# Altium footprint library CONN DT15-08P.PcbLib: 1 footprints
Each footprint in its own frame and in the unit in brackets; x right, y up, seen from the top. Pads: shape width x height; smd on the part's side, far side on the other; paste and mask are expansions set on the pad; w line width, h text height; cw(c..) or ccw(c..) is an arc to the next point about the centre after c.
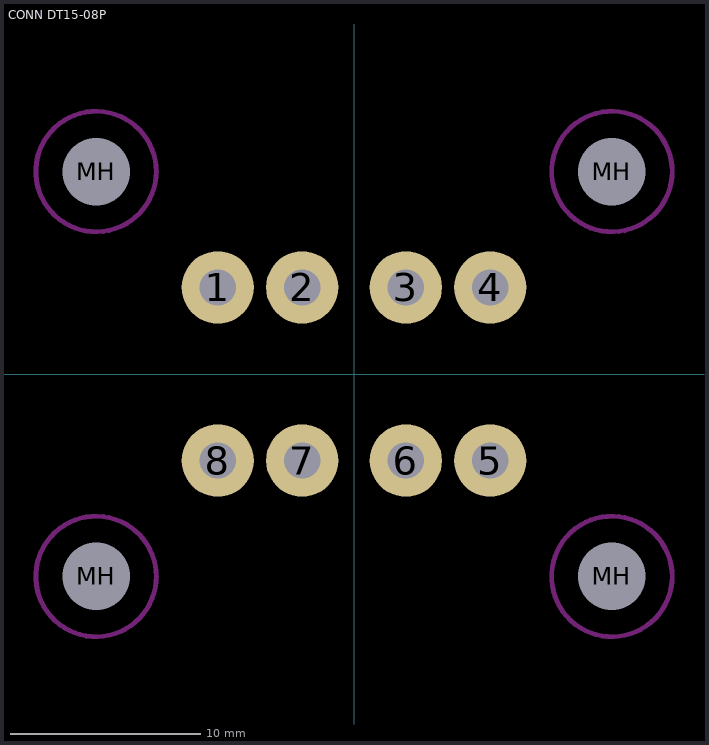
[diagram p0: the footprint, top view; thin cyan lines are the x and y axes]

## CONN DT15-08P [mil]
pads (12):
  round 150 hole 75: 1(-282.5,179.5) 2(-107.5,179.5) 3(107.5,179.5) 4(282.5,179.5) 5(282.5,-179.5) 6(107.5,-179.5) 7(-107.5,-179.5) 8(-282.5,-179.5)
  round 80 hole 140 unplated: MH(-535,-420) MH(-535,420) MH(535,-420) MH(535,420)
Bottom Overlay:
  text "8" at -265,-340 h60
  text "7" at -90,-340 h60
  text "6" at 130,-340 h60
  text "5" at 300,-340 h60
  text "4" at 305,275 h60
  text "3" at 130,275 h60
  text "2" at -85,280 h60
  text "1" at -275,280 h60
Keep-Out Layer:
  circle w10: c535,420 r125
  circle w10: c-535,420 r125
  circle w10: c-535,-420 r125
  circle w10: c535,-420 r125
3D body: height 1196.48, standoff -126.07, extent -1089.87,-693.68 1090.59,694.32